# Altium footprint library PcbLib3.PcbLib: 26 footprints (part 1 of 2)
Each footprint in its own frame and in the unit in brackets; x right, y up, seen from the top. Pads: shape width x height; smd on the part's side, far side on the other; paste and mask are expansions set on the pad; w line width, h text height; cw(c..) or ccw(c..) is an arc to the next point about the centre after c.
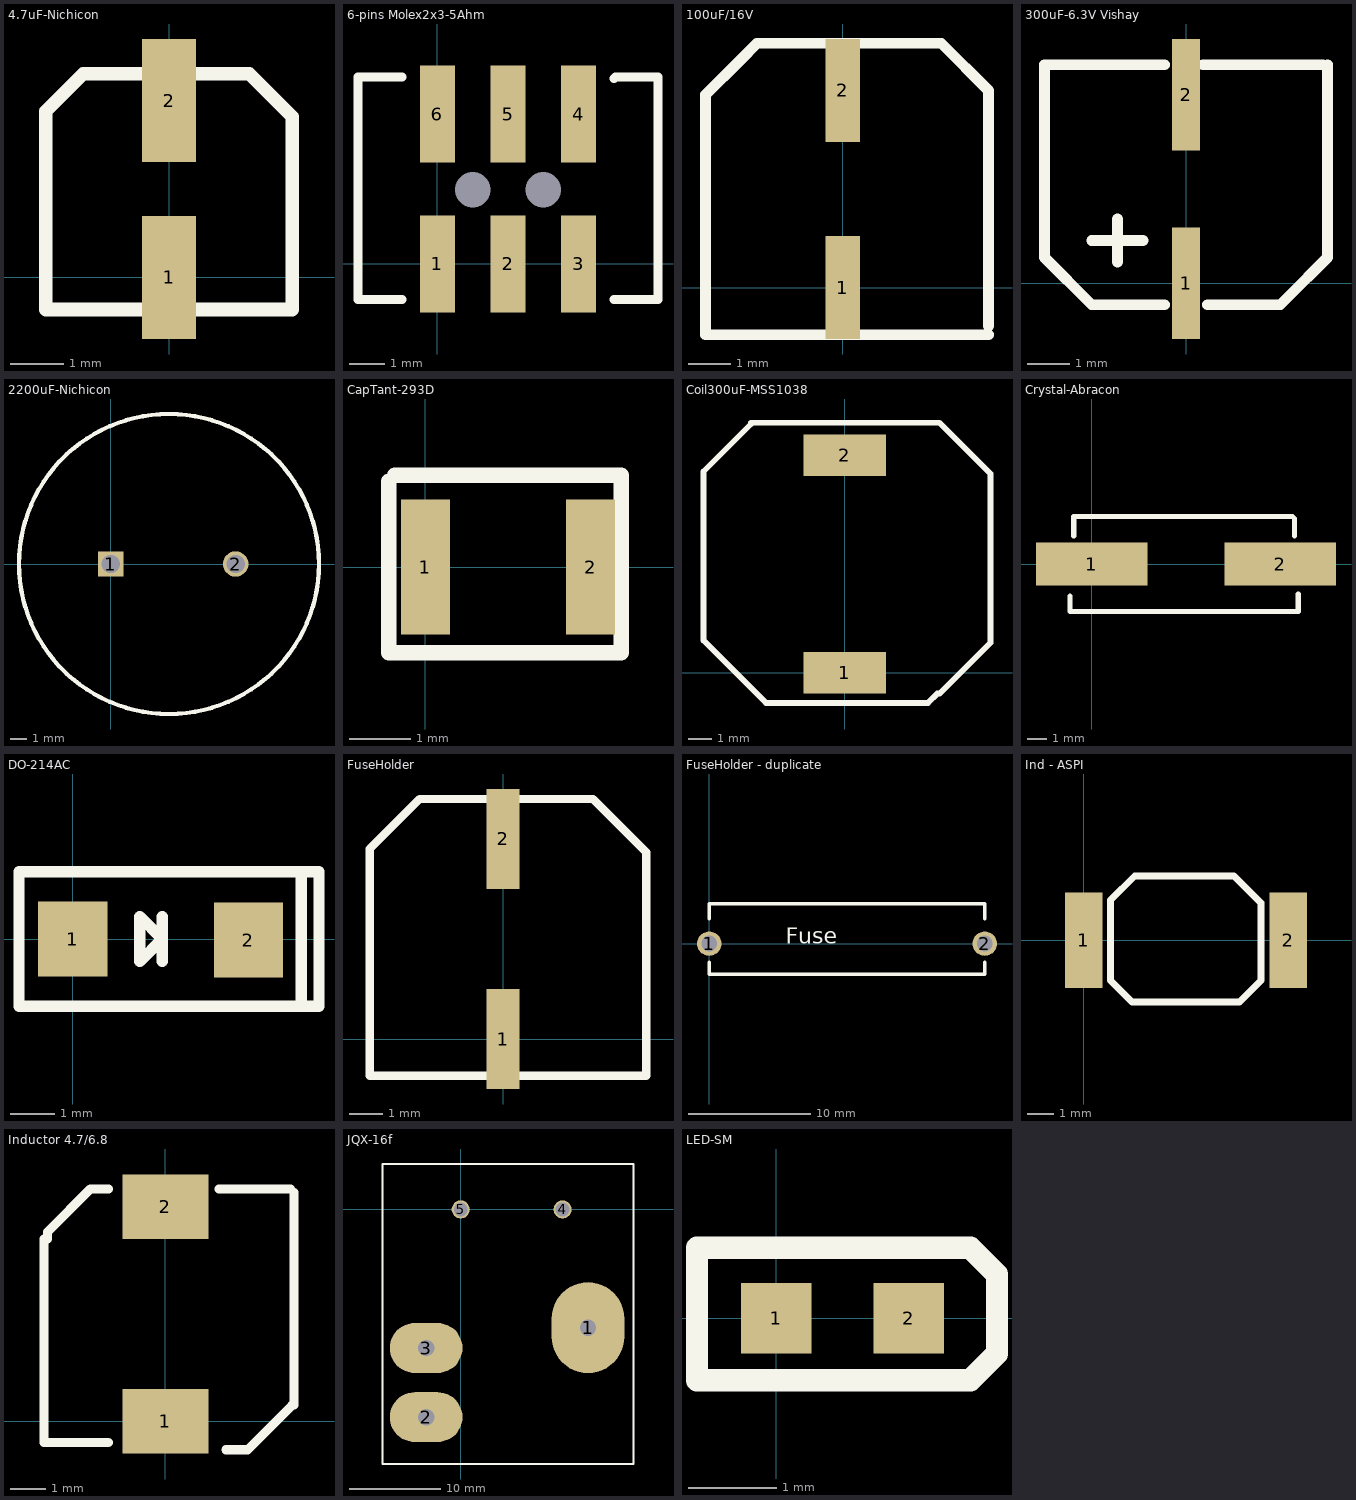
[diagram p0: the footprints below, top view; thin cyan lines are the x and y axes]

## 4.7uF-Nichicon [mm]
pads (2):
  rect 1x2.3 smd: 1(0,0) 2(0,3.3)
Top Overlay:
  lines w0.254: -2.3,-0.6 2.3,-0.6 2.3,3 1.5,3.8 -1.6,3.8 -2.3,3.1 -2.3,-0.6

## 6-pins Molex2x3-5Ahm [mm] "current transformer"
pads (8):
  rect 1x2.75 smd: 1(0,0) 2(2,0) 3(4,0) 4(4,4.25) 5(2,4.25) 6(0,4.25)
  round 0 hole 1: 4(1,2.1) 5(3,2.1)
Top Overlay:
  lines w0.254: -1,-1 -2.25,-1 -2.25,5.3 -1,5.3 ; 5,-1 6.25,-1 6.25,5.3 5.05,5.3 5,5.25

## 100uF/16V [mm]
pads (2):
  rect 0.8x2.4 smd: 1(0,0) 2(0,4.6)
Top Overlay:
  lines w0.254: 3.4,-1.1 -3.2,-1.1 -3.2,4.5 ; 3.4,-0.9 3.4,4.6 2.3,5.7 -2,5.7 -2.4,5.3 -3.2,4.5 ; -3.2,4.5 -3.2,4.5

## 300uF-6.3V Vishay [mm] "polar capacitor"
pads (2):
  rect 0.65x2.6 smd: 1(0,0) 2(0,4.4)
Top Overlay:
  lines w0.254: -2.2,1 -1,1 ; -1.6,0.5 -1.6,1.5 ; -0.5,-0.5 -2.2,-0.5 -3.3,0.6 -3.3,0.9 -3.3,5.1 -0.5,5.1 ; 0.4,5.1 3.2,5.1 ; 0.5,-0.5 1.4,-0.5 2.2,-0.5 2.35,-0.35 3.3,0.6 3.3,5.1

## 330uF/6.3v-kemet [mm]

## 2200uF-Nichicon [mil]
pads (2):
  rect 60x60 hole 43.31: 1(0,0)
  round 60 hole 43.31: 2(295.28,0)
Top Overlay:
  circle w10: c137.8,0 r354.33

## CapTant-293D [mm] "tantal capacitor 4.7uF-Vishay"
pads (2):
  rect 0.8x2.2 smd: 1(0,0) 2(2.7,0)
Top Overlay:
  lines w0.254: -0.6,1.4 -0.6,-1.4 3.2,-1.4 3.2,1.5 -0.5,1.5

## Coil300uF-MSS1038 [mm]
pads (2):
  rect 3.56x1.78 smd: 1(0,0) 2(0,9.4)
Top Overlay:
  lines w0.254: -4.05,10.75 -6.1,8.7 -6.1,1.4 -3.4,-1.3 3.6,-1.3 4,-0.9 4.1,-0.9 6.3,1.3 6.3,8.6 4.1,10.8 -4.05,10.8

## Crystal-Abracon [mm]
pads (2):
  rect 5.6x2.14 smd: 1(0,0) 2(9.5,0)
Top Overlay:
  lines w0.254: -1.1,-1.6 -1.1,-2.4 10.3,-2.4 ; -0.9,1.4 -0.9,2.4 10.1,2.4 10.2,2.3 10.2,1.4 ; 10.4,-2.4 10.4,-1.5

## DO-214AC [mm] "SMD 1N4001"
pads (2):
  rect 1.55x1.67 smd: 1(0,0) 2(3.925,-0.025)
Top Overlay:
  lines w0.254: 2,-0.5 2,0.5 ; 5.1,-1.4 5.1,1.5 ; 1.5,0.5 1.5,0.5 ; 1.5,0.5 2,0 ; 1.5,0.5 1.5,-0.5 2,0 ; 2,0 2,0 ; -1.2,-1.5 -1.2,1.5 5.5,1.5 5.5,1 5.5,-1 5.5,-1.5 -1.2,-1.5

## FuseHolder [mm]
pads (2):
  rect 1x3 smd: 1(0,0) 2(0,6)
Top Overlay:
  lines w0.254: -4,-1.1 -4,5.7 -2.5,7.2 2.7,7.2 4.3,5.6 4.3,-1.1 -4,-1.1

## FuseHolder - duplicate [mm]
pads (2):
  round 2 hole 1.3: 1(0,0) 2(22.5,0)
Top Overlay:
  lines w0.254: 0,-1.5 0,-2.5 22.5,-2.5 22.5,-1.5 ; 0,2 0,3.25 22.5,3.25 22.5,2
  text "Fuse" at 6.25,0 h1.32

## Ind - ASPI [mm] "Inductor PS"
pads (2):
  rect 1.4x3.56 smd: 1(0,0) 2(7.62,0)
Top Overlay:
  lines w0.254: 1,-1.5 1,1.5 1.9,2.4 5.6,2.4 6.6,1.4 6.6,-1.5 5.8,-2.3 4.65,-2.3 2.95,-2.3 1.8,-2.3 1,-1.5

## Inductor 4.7/6.8 [mm] "Bourns"
pads (2):
  rect 2.4x1.8 smd: 1(0,0) 2(0,6)
Top Overlay:
  lines w0.254: -3.4,5.1 -3.4,-0.6 -1.6,-0.6 ; -3.3,5.1 -3.3,5.3 -2.1,6.5 -1.6,6.5 ; 1.5,6.5 3.5,6.5 ; 1.7,-0.8 2.3,-0.8 3.55,0.45 ; 3.6,0.45 3.6,6.4

## JQX-16f [mm] "power relay"
pads (5):
  oval 8x10 hole 1.8: 1(14,-13)
  oval 8x5.5 hole 1.8: 2(-3.8,-22.84) 3(-3.8,-15.24)
  round 2 hole 1.5: 4(11.2,0) 5(0,0)
Top Overlay:
  lines w0.254: -8.6,-28 19,-28 19,-20.25 19,-5.75 19,5 -8.6,5 -8.6,-28

## LED-SM [mm]
pads (2):
  rect 0.8x0.8 smd: 1(0,0) 2(1.5,0)
Top Overlay:
  lines w0.254: -0.9,-0.7 2.2,-0.7 2.5,-0.4 2.5,0.5 2.2,0.8 -0.9,0.8 -0.9,-0.7